# EAGLE library part 691335510010 (library Wurth_Connectors_WR-TBL Pluggable Connector)
WR-TBL Serie 3355 - 5.08 mm Double Level Modular Horizontal Male PCB Header KIND PROPERTIES Pitch 5.08 mm MATERIAL PROPERTIES Insulator Material PA66 Insulator Flammability Rating UL94 V-0 Contact Material Brass Contact Plating Tin GENERAL INFORMATION Operating Temperature -40 up to +105 °C Compliance RoHS ELECTRICAL PROPERTIES IR UL 10 A Working Voltage [UL] 300 V (AC) Withstanding Voltage [cULus] 1600 V (AC) Contact Resistance [cULus] 20 mΩ CERTIFICATION cULus Approval E315414 <https://www.we-online.com/catalog/media/o33287v209%20Family_WR-TBL_6913355100xx.jpg> Details see: https://www.we-online.com/catalog/en/TBL_5_08_3355_DOUBLE_LEVEL_HORIZONTAL_MALE_PCB_HEADER_6913355100XX/ Updated by Ella Wu 2019-12-26 2022(C) Wurth Elektronik
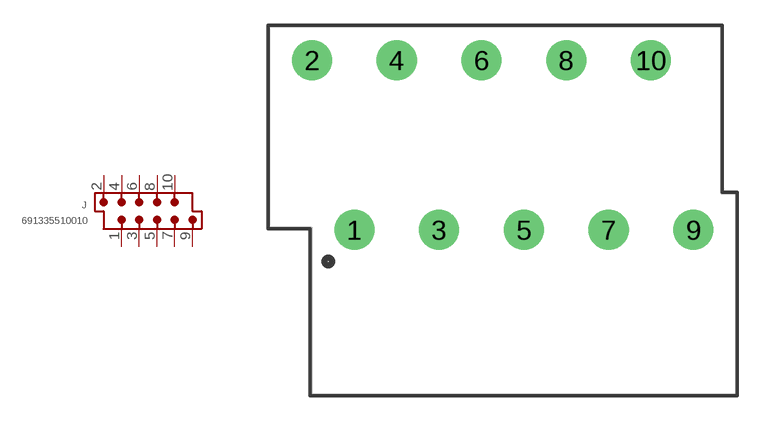
[diagram p347: symbol with the pads of 691335510010; footprint 691335510010]

Designator prefix J

## 691335510010 (DATASHEET-URL: https://www.we-online.com/redexpert/spec/691335510010?ae; IR-UL: 10A; MOUNT: THT; PART-NUMBER: 691335510010; PINS: 10; PITCH: 5.08mm; TYPE: Double Level Horizontal; VALUE: 691335510010; WORKING-VOLTAGE-UL: 300V (AC))  [691335510010]
1  1  pas
2  2  pas
3  3  pas
4  4  pas
5  5  pas
6  6  pas
7  7  pas
8  8  pas
9  9  pas
10  10  pas

## Footprint 691335510010 (pad centres in mm)
WR-TBL Serie 3355 - 5.08 mm Double Level Modular Horizontal Male PCB Header Max Height = 23.7mm , Pitch 5.08mm , 10pins
drill 1.6: 1 -10.16,0; 2 -12.7,10.16; 3 -5.08,0; 4 -7.62,10.16; 5 0,0; 6 -2.54,10.16; 7 5.08,0; 8 2.54,10.16; 9 10.16,0; 10 7.62,10.16